# EAGLE library part TPS65185_RGZ_48 (library vikc-ic)
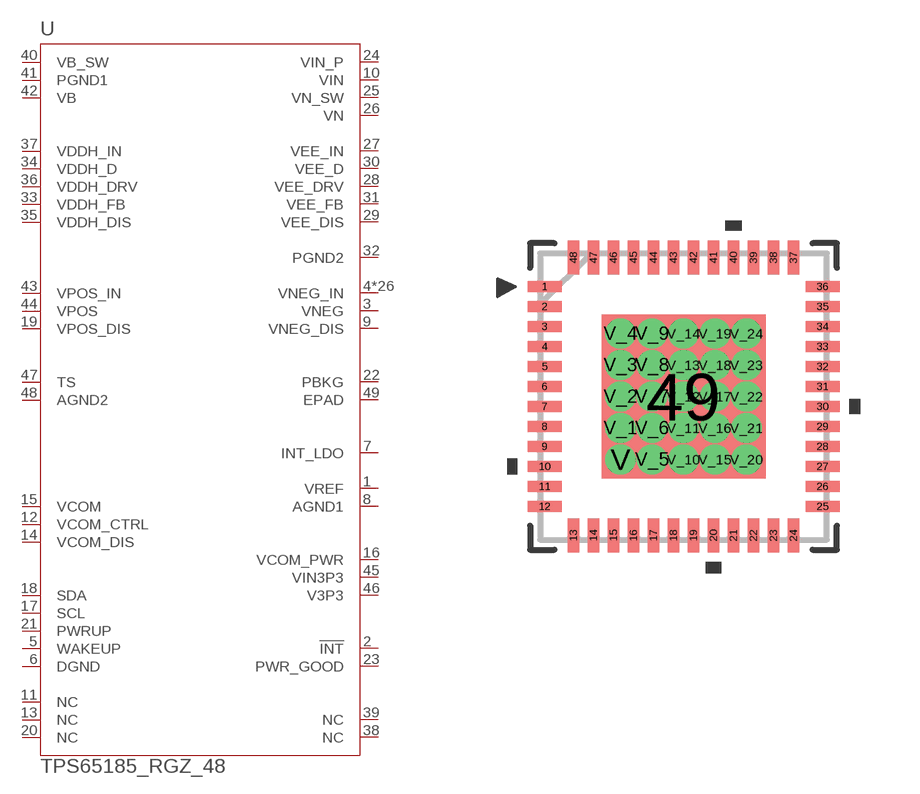
[diagram p6: symbol with the pads of RGZ48_4P1X4P1; footprint RGZ48_4P1X4P1]

Designator prefix U

## TPS65185_RGZ_48 (DATASHEETURL: http://www.ti.com/lit/gpn/TPS65185; FAMILY_NAME: LCD/OLED DISPLAY BIAS SOLUTIONS; GENERIC_PART_NUMBER: TPS65185; INDUSTRY_STD_PKG_TYPE: VQFN; MANUFACTURER: Texas Instruments; MANUFACTURER_PART_NUMBER: tps65185_rgz_48; PACKAGE_DESIGNATOR: RGZ; PIN_COUNT: 48; VENDOR: Texas Instruments)  [RGZ48_4P1X4P1]
1  VREF  out
2  !INT  out
3  VNEG  out
4  VNEG_IN  in
5  WAKEUP  in
6  DGND  pwr
7  INT_LDO  out
8  AGND1  pwr
9  VNEG_DIS  out
10  VIN  in
11  NC  pas
12  VCOM_CTRL  in
13  NC  pas
14  VCOM_DIS  in
15  VCOM  out
16  VCOM_PWR  in
17  SCL  in
18  SDA
19  VPOS_DIS  in
20  NC  pas
21  PWRUP  in
22  PBKG  pas
23  PWR_GOOD  out
24  VIN_P  in
25  VN_SW  out
26  VN  in
27  VEE_IN  in
28  VEE_DRV  out
29  VEE_DIS  in
30  VEE_D  out
31  VEE_FB  in
32  PGND2  pwr
33  VDDH_FB  in
34  VDDH_D  out
35  VDDH_DIS  in
36  VDDH_DRV  out
37  VDDH_IN  in
38  NC  pas
39  NC  pas
40  VB_SW  out
41  PGND1  pwr
42  VB  in
43  VPOS_IN  in
44  VPOS  out
45  VIN3P3  in
46  V3P3  pwr
47  TS  in
48  AGND2  pwr
49  EPAD  pas
V  VNEG_IN  in
V_1  VNEG_IN  in
V_2  VNEG_IN  in
V_3  VNEG_IN  in
V_4  VNEG_IN  in
V_5  VNEG_IN  in
V_6  VNEG_IN  in
V_7  VNEG_IN  in
V_8  VNEG_IN  in
V_9  VNEG_IN  in
V_10  VNEG_IN  in
V_11  VNEG_IN  in
V_12  VNEG_IN  in
V_13  VNEG_IN  in
V_14  VNEG_IN  in
V_15  VNEG_IN  in
V_16  VNEG_IN  in
V_17  VNEG_IN  in
V_18  VNEG_IN  in
V_19  VNEG_IN  in
V_20  VNEG_IN  in
V_21  VNEG_IN  in
V_22  VNEG_IN  in
V_23  VNEG_IN  in
V_24  VNEG_IN  in

## Footprint RGZ48_4P1X4P1 (pad centres in mm)
smd 0.85 x 0.28: 1 -3.475,2.75; 2 -3.475,2.25; 3 -3.475,1.75; 4 -3.475,1.25; 5 -3.475,0.75; 6 -3.475,0.25; 7 -3.475,-0.25; 8 -3.475,-0.75; 9 -3.475,-1.25; 10 -3.475,-1.75; 11 -3.475,-2.25; 12 -3.475,-2.75; 25 3.475,-2.75; 26 3.475,-2.25; 27 3.475,-1.75; 28 3.475,-1.25; 29 3.475,-0.75; 30 3.475,-0.25; 31 3.475,0.25; 32 3.475,0.75; 33 3.475,1.25; 34 3.475,1.75; 35 3.475,2.25; 36 3.475,2.75
smd 0.28 x 0.85: 13 -2.751,-3.475; 14 -2.251,-3.475; 15 -1.75,-3.475; 16 -1.25,-3.475; 17 -0.75,-3.475; 18 -0.25,-3.475; 19 0.25,-3.475; 20 0.75,-3.475; 21 1.25,-3.475; 22 1.75,-3.475; 23 2.251,-3.475; 24 2.751,-3.475; 37 2.751,3.475; 38 2.251,3.475; 39 1.75,3.475; 40 1.25,3.475; 41 0.75,3.475; 42 0.25,3.475; 43 -0.25,3.475; 44 -0.75,3.475; 45 -1.25,3.475; 46 -1.75,3.475; 47 -2.251,3.475; 48 -2.751,3.475
smd 4.1 x 4.1: 49 0,0
drill 0.25 pad 0.5: V -1.575,-1.575; V_1 -1.575,-0.787; V_2 -1.575,0; V_3 -1.575,0.787; V_4 -1.575,1.575; V_5 -0.787,-1.575; V_6 -0.787,-0.787; V_7 -0.787,0; V_8 -0.787,0.787; V_9 -0.787,1.575; V_10 0,-1.575; V_11 0,-0.787; V_12 0,0; V_13 0,0.787; V_14 0,1.575; V_15 0.787,-1.575; V_16 0.787,-0.787; V_17 0.787,0; V_18 0.787,0.787; V_19 0.787,1.575; V_20 1.575,-1.575; V_21 1.575,-0.787; V_22 1.575,0; V_23 1.575,0.787; V_24 1.575,1.575